# Altium integrated library Capacitor_0_1uF.IntLib: 1 symbol
Pins are listed as number, name and electrical type; pins without a type are passive.

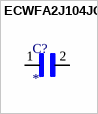
[diagram p0: symbol ECWFA2J104JQ]

## ECWFA2J104JQ
designator C?
MP: ECWFA2J104JQ; Price: None; Availability: Unavailable; Package: None; Value: *
footprint CAPRR1500W60L1820T520H1540
pins: 1, 2